# Altium footprint library Molex 1053141112.PcbLib: 1 footprints
Each footprint in its own frame and in the unit in brackets; x right, y up, seen from the top. Pads: shape width x height; smd on the part's side, far side on the other; paste and mask are expansions set on the pad; w line width, h text height; cw(c..) or ccw(c..) is an arc to the next point about the centre after c.
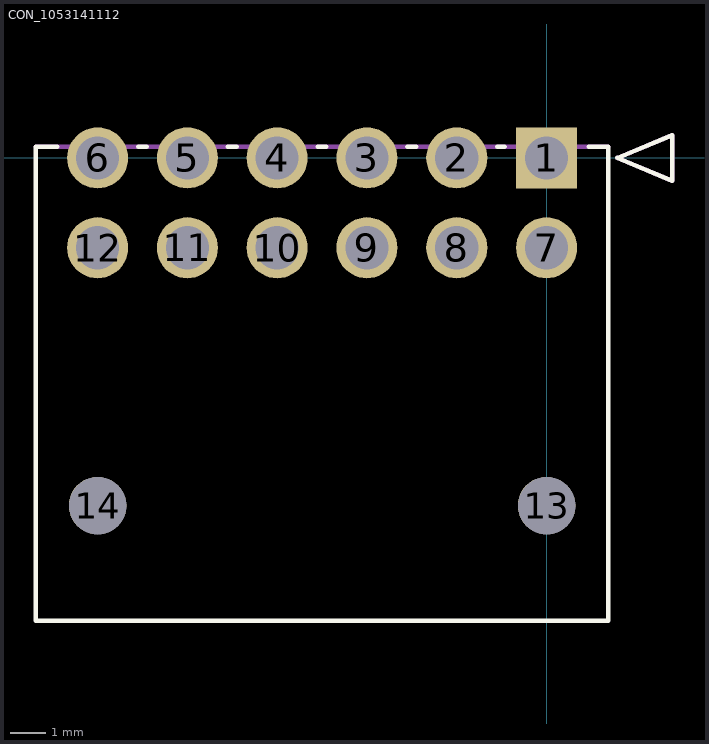
[diagram p0: the footprint, top view; thin cyan lines are the x and y axes]

## CON_1053141112 [mm]
pads (14):
  rect 1.7x1.7 hole 1.2 mask+0.076: 1(0,0)
  round 1.7 hole 1.2 mask+0.076: 2(-2.5,0) 3(-5,0) 4(-7.5,0) 5(-10,0) 6(-12.5,0) 7(0,-2.5) 8(-2.5,-2.5) 9(-5,-2.5) 10(-7.5,-2.5) 11(-10,-2.5) 12(-12.5,-2.5)
  round 1.6 hole 1.6 unplated mask+0.076: 13(0,-9.68) 14(-12.5,-9.68)
Top Overlay:
  lines w0.127: -13.628,0.31 -14.22,0.31 -14.22,-12.88 1.72,-12.88 1.72,0.31 1.17,0.31 ; -11.372,0.31 -11.128,0.31 ; -8.872,0.31 -8.628,0.31 ; -6.372,0.31 -6.128,0.31 ; -3.872,0.31 -3.628,0.31 ; -1.372,0.31 -1.17,0.31 ; 1.974,0 3.498,-0.635 3.498,0.635 1.974,0
Mechanical 13:
  lines w0.127: -14.22,0.318 1.72,0.318 ; 1.974,0 3.498,-0.635 3.498,0.635 1.974,0
3D body: height 0.25, standoff 0, extent 0,0 0.254,0.254